# EAGLE library part TPS5331[8/9] (library packages(ti))
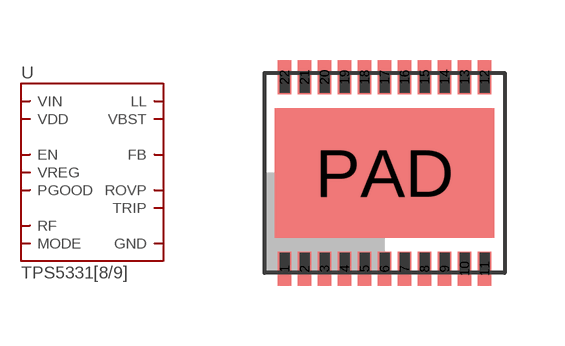
[diagram p13: symbol with the pads of DQP.22; footprint DQP.22]

Designator prefix U

## TPS5331[8/9].DQP  [DQP.22]
1  FB
2  EN
3  PGOOD
4  VBST
5  ROVP
6  LL
7  LL
8  LL
9  LL
10  LL
11  LL
12  VIN
13  VIN
14  VIN
15  VIN
16  VIN
17  VIN
18  VREG
19  VDD
20  MODE
21  TRIP
22  RF
PAD  GND

## Footprint DQP.22 (pad centres in mm)
smd 0.34 x 0.85: 1 -2.5,-2.395; 2 -2,-2.395; 3 -1.5,-2.395; 4 -1,-2.395; 5 -0.5,-2.395; 6 0,-2.395; 7 0.5,-2.395; 8 1,-2.395; 9 1.5,-2.395; 10 2,-2.395; 11 2.5,-2.395; 12 2.5,2.395; 13 2,2.395; 14 1.5,2.395; 15 1,2.395; 16 0.5,2.395; 17 0,2.395; 18 -0.5,2.395; 19 -1,2.395; 20 -1.5,2.395; 21 -2,2.395; 22 -2.5,2.395
smd 5.48 x 3.24: PAD 0,0